# Altium footprint library diode.PcbLib: 20 footprints (part 2 of 2)
Each footprint in its own frame and in the unit in brackets; x right, y up, seen from the top. Pads: shape width x height; smd on the part's side, far side on the other; paste and mask are expansions set on the pad; w line width, h text height; cw(c..) or ccw(c..) is an arc to the next point about the centre after c.
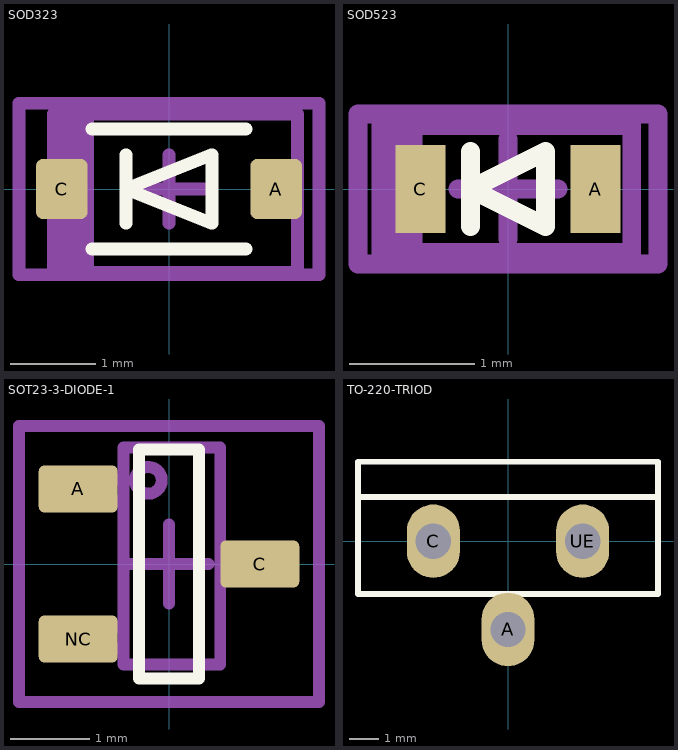
[diagram p1: the footprints below, top view; thin cyan lines are the x and y axes]

## SOD323 [mm] "SOD-323; 2 Leads; Body 1.8 x 1.35 mm, (LxW)"
height 1.15
pads (2):
  rrect25% 0.6x0.7 smd: A(1.25,0) C(-1.25,0)
Top Overlay:
  lines w0.15: -0.9,-0.7 0.9,-0.7 ; -0.9,0.7 0.9,0.7 ; -0.5,-0.4 -0.5,0.4 ; -0.5,0 0.5,-0.4 0.5,0.4 -0.5,0
  text "." at -1.4,0.75 h0.1
Mechanical 15:
  lines w0.15: -0.4,0 0.4,0 ; 0,-0.4 0,0.4 ; -1.75,-1 1.75,-1 1.75,1 -1.75,1 -1.75,-1
Mechanical 29:
  rectangle: -1.35,-0.975 -0.875,0.875
  lines w0.15: -1.35,-0.975 1.5,-0.975 1.5,0.875 -1.35,0.875 -1.35,-0.975
3D body "SOD323.STEP": height 1.1, standoff 0, extent -1.3,-0.675 1.3,0.675

## SOD523 [mm] "SODFL, 2-Leads, Body 0,80x1,60mm, IPC Medium Density"
height 0.65
pads (2):
  rect 0.4x0.7 smd: A(0.7,0) C(-0.7,0)
Top Overlay:
  lines w0.15: -0.3,-0.3 -0.3,0.3 ; -0.3,0 0.3,-0.3 0.3,0.3 -0.3,0
  text "." at -1.2,0.6 h0.1
Mechanical 15:
  lines w0.15: -0.4,0 0.4,0 ; 0,-0.4 0,0.4 ; -1.2,-0.6 -1.2,0.6 1.2,0.6 1.2,-0.6 -1.2,-0.6
Mechanical 29:
  rectangle: -1.016,-0.508 -0.686,0.508
  lines w0.15: -1.016,-0.508 -1.016,0.508 0.991,0.508 0.991,-0.508 -1.016,-0.508
3D body "SOD523.STEP": height 0.65, standoff 0, extent -0.825,-0.4 0.825,0.4

## SOT23-3-DIODE-1 [mm] "SOT23, 3 pin"
height 1.003
pads (3):
  rrect25% 1x0.6 smd: A(-1.15,0.95) C(1.15,0) NC(-1.15,-0.95)
Top Overlay:
  lines w0.15: -0.381,-1.45 -0.381,1.45 0.381,1.45 0.381,-1.45 -0.381,-1.45
  text "." at -1.5,1.75 h0.1
Mechanical 13:
  circle w0.15: c-0.26,1.06 r0.169
Mechanical 15:
  lines w0.15: -0.5,0 0,0 ; 0,-0.5 0,0 ; 0,0.5 0,0 ; 0.5,0 0,0 ; -1.9,-1.75 -1.9,1.75 1.9,1.75 1.9,-1.75 -1.9,-1.75
Mechanical 29:
  lines w0.15: -0.575,-1.075 -1.4,-1.075 -1.4,-0.8 -0.575,-0.8 ; -0.575,0.8 -1.4,0.8 -1.4,1.075 -0.575,1.075 ; -0.575,-1.275 -0.575,1.475 0.65,1.475 0.65,-1.275 -0.575,-1.275 ; 0.65,-0.15 0.65,0.125 1.475,0.125 1.475,-0.15 0.65,-0.15
3D body "SOT23-3.STEP": height 1.29, standoff -0.01, extent -1.4,-1.45 1.4,1.45

## TO-220-TRIOD [mm]
pads (3):
  oval 1.8x2.5 hole 1.2: A(0,-3) C(-2.54,0) UE(2.54,0)
Top Overlay:
  lines w0.2: -5.1,1.5 5.1,1.5 ; -5.1,-1.8 -5.1,2.7 5.1,2.7 5.1,-1.8 -5.1,-1.8
Mechanical 29:
  lines w0.1: 5.1,1.5 -5.1,1.5 -5.1,2.7 ; -5.1,2.7 5.1,2.7 5.1,-1.8 -5.1,-1.8 -5.1,2.7
  text ".Designator" at -3.5,-0.6 h1
3D body "TO-220-4.STEP": height 25.06, standoff -3.74, extent -5.1,-1.8 5.1,2.7